# Altium footprint library Mini-Rambo_OLD.PcbLib: 52 footprints (part 4 of 4)
Each footprint in its own frame and in the unit in brackets; x right, y up, seen from the top. Pads: shape width x height; smd on the part's side, far side on the other; paste and mask are expansions set on the pad; w line width, h text height; cw(c..) or ccw(c..) is an arc to the next point about the centre after c.
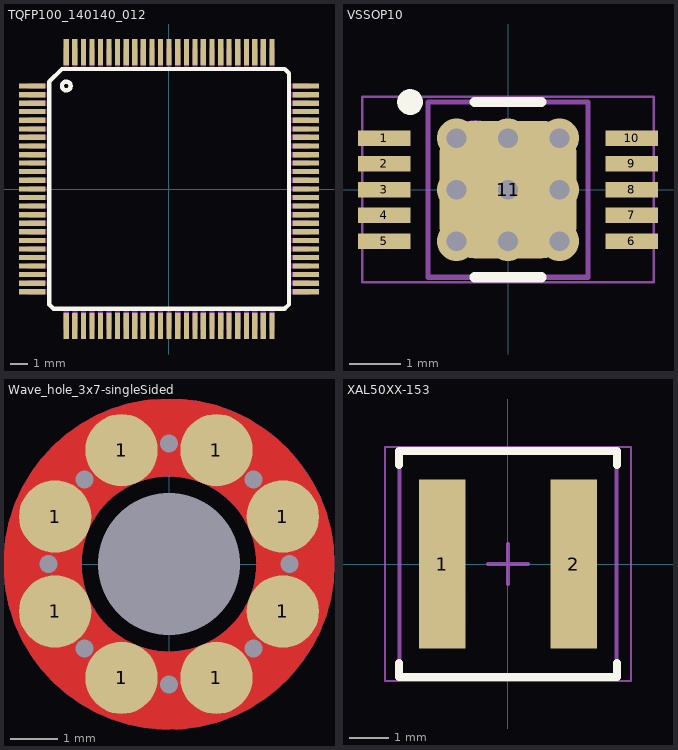
[diagram p3: the footprints below, top view; thin cyan lines are the x and y axes]

## TQFP100_140140_012 [mil]
pads (100):
  rect 60x12 smd mask+4: 1(-314.96,237) 2(-314.96,217) 3(-314.96,197) 4(-314.96,178) 5(-314.96,158) 6(-314.96,138) 7(-314.96,119) 8(-314.96,99) 9(-314.96,79) 10(-314.96,60) 11(-314.96,40) 12(-314.96,20) 13(-314.96,0) 14(-314.96,-19.68) 15(-314.96,-39.37) 16(-314.96,-59.06) 17(-314.96,-78.74) 18(-314.96,-98.43) 19(-314.96,-118.11) 20(-314.96,-137.8) 21(-314.96,-157.48) 22(-314.96,-177.17) 23(-314.96,-196.85) 24(-314.96,-216.54) 25(-314.96,-236.22) 51(315,-236.22) 52(315,-216.54) 53(315,-196.85) 54(315,-177.17) 55(315,-157.48) 56(315,-137.8) 57(315,-118.11) 58(315,-98.43) 59(315,-78.74) 60(315,-59.06) 61(315,-39.37) 62(315,-19.68) 63(315,0) 64(315,20) 65(315,40) 66(315,60) 67(315,79) 68(315,99) 69(315,119) 70(315,138) 71(315,158) 72(315,178) 73(315,197) 74(315,217) 75(315,237)
  rect 12x60 smd mask+4: 26(-236.22,-314.96) 27(-216.54,-314.96) 28(-196.85,-314.96) 29(-177.17,-314.96) 30(-157.48,-314.96) 31(-137.8,-314.96) 32(-118.11,-314.96) 33(-98.43,-314.96) 34(-78.74,-314.96) 35(-59.06,-314.96) 36(-39.37,-314.96) 37(-19.69,-314.96) 38(0,-314.96) 39(20,-314.96) 40(40,-314.96) 41(60,-314.96) 42(79,-314.96) 43(99,-314.96) 44(119,-314.96) 45(138,-314.96) 46(158,-314.96) 47(178,-314.96) 48(197,-314.96) 49(217,-314.96) 50(237,-314.96) 76(237,315) 77(217,315) 78(197,315) 79(178,315) 80(158,315) 81(138,315) 82(119,315) 83(99,315) 84(79,315) 85(60,315) 86(40,315) 87(20,315) 88(0,315) 89(-19.69,315) 90(-39.37,315) 91(-59.06,315) 92(-78.74,315) 93(-98.43,315) 94(-118.11,315) 95(-137.8,315) 96(-157.48,315) 97(-177.17,315) 98(-196.85,315) 99(-216.54,315) 100(-236.22,315)
Top Overlay:
  circle w10: c-236.22,237 r10
  lines w10: -275.59,-265.75 -265.75,-275.59 266,-275.59 276,-265.75 276,266 266,276 -246.06,276 -275.59,247 -275.59,-265.75
Mechanical 8:
  rectangle: -322.83,231.02 -281.5,243.02
  rectangle: -322.83,211.02 -281.5,223.02
  rectangle: -322.83,191.02 -281.5,203.02
  rectangle: -322.83,172.02 -281.5,184.02
  rectangle: -322.83,152.02 -281.5,164.02
  rectangle: -322.83,132.02 -281.5,144.02
  rectangle: -322.83,113.02 -281.5,125.02
  rectangle: -322.83,93.02 -281.5,105.02
  rectangle: -322.83,73.02 -281.5,85.02
  rectangle: -322.83,54.02 -281.5,65.02
  rectangle: -322.83,34.02 -281.5,46.02
  rectangle: -322.83,14.02 -281.5,26.02
  rectangle: -322.83,-5.91 -281.5,6
  rectangle: -322.83,-25.59 -281.5,-13.78
  rectangle: -322.85,-45.28 -281.51,-33.46
  rectangle: -322.83,-64.96 -281.5,-53.15
  rectangle: -322.83,-84.63 -281.5,-72.81
  rectangle: -322.83,-104.33 -281.5,-92.52
  rectangle: -322.85,-124.02 -281.51,-112.2
  rectangle: -322.83,-143.7 -281.5,-131.88
  rectangle: -322.83,-163.39 -281.5,-151.57
  rectangle: -322.83,-183.07 -281.5,-171.25
  rectangle: -322.83,-202.74 -281.5,-190.92
  rectangle: -322.83,-222.44 -281.5,-210.62
  rectangle: -322.85,-242.13 -281.52,-230.31
  rectangle: -242.15,-322.83 -230.33,-281.5
  rectangle: -222.44,-322.83 -210.63,-281.5
  rectangle: -202.76,-322.85 -190.94,-281.52
  rectangle: -183.07,-322.83 -171.26,-281.5
  rectangle: -163.39,-322.83 -151.57,-281.5
  rectangle: -143.7,-322.83 -131.89,-281.5
  rectangle: -124.04,-322.83 -112.22,-281.5
  rectangle: -104.33,-322.83 -92.52,-281.5
  rectangle: -84.65,-322.85 -72.83,-281.52
  rectangle: -64.96,-322.83 -53.15,-281.5
  rectangle: -45.3,-322.83 -33.48,-281.5
  rectangle: -25.59,-322.83 -13.78,-281.5
  rectangle: -5.91,-322.83 6,-281.5
  rectangle: 14,-322.85 26,-281.51
  rectangle: 34,-322.85 46,-281.51
  rectangle: 54,-322.85 65,-281.51
  rectangle: 73,-322.85 85,-281.51
  rectangle: 93,-322.85 105,-281.51
  rectangle: 113,-322.85 125,-281.51
  rectangle: 132,-322.85 144,-281.51
  rectangle: 152,-322.85 164,-281.51
  rectangle: 172,-322.85 184,-281.51
  rectangle: 191,-322.85 203,-281.51
  rectangle: 211,-322.85 223,-281.51
  rectangle: 231,-322.85 243,-281.51
  rectangle: 282,-242.13 323,-230.31
  rectangle: 282,-222.44 323,-210.63
  rectangle: 282,-202.76 323,-190.94
  rectangle: 282,-183.09 323,-171.27
  rectangle: 282,-163.39 323,-151.57
  rectangle: 282.02,-143.7 323.02,-131.89
  rectangle: 282,-124.02 323,-112.2
  rectangle: 282,-104.35 323,-92.53
  rectangle: 282,-84.65 323,-72.83
  rectangle: 282,-64.96 323,-53.15
  rectangle: 282,-45.28 323,-33.46
  rectangle: 282.02,-25.59 323.02,-13.78
  rectangle: 282.02,-5.91 323.02,6
  rectangle: 282,14 323,26
  rectangle: 282,34 323,46
  rectangle: 282,54 323,65
  rectangle: 282,73 323,85
  rectangle: 282,93 323,105
  rectangle: 282,113 323,125
  rectangle: 282,132 323,144
  rectangle: 282,152 323,164
  rectangle: 282,172 323,184
  rectangle: 282,191 323,203
  rectangle: 282,211 323,223
  rectangle: 282,231 323,243
  rectangle: 231,282 243,323
  rectangle: 211,282 223,323
  rectangle: 191,282 203,323
  rectangle: 172,282 184,323
  rectangle: 152,282 164,323
  rectangle: 132,282 144,323
  rectangle: 113,282 125,323
  rectangle: 93,282 105,323
  rectangle: 73,282 85,323
  rectangle: 54,282 65,323
  rectangle: 34,282 46,323
  rectangle: 14,282 26,323
  rectangle: -5.89,282 6.02,323
  rectangle: -25.57,282 -13.76,323
  rectangle: -45.28,282 -33.46,323
  rectangle: -64.96,282 -53.15,323
  rectangle: -84.65,282 -72.83,323
  rectangle: -104.33,282.02 -92.52,323.02
  rectangle: -124.02,282 -112.2,323
  rectangle: -143.68,282 -131.87,323
  rectangle: -163.39,282 -151.57,323
  rectangle: -183.07,282.02 -171.26,323.02
  rectangle: -202.76,282 -190.94,323
  rectangle: -222.44,282 -210.63,323
  rectangle: -242.13,282 -230.31,323
3D body: height 47.24, standoff 0, extent -280.59,-280.59 281,281

## VSSOP10 [mm] "TSSOP, 10-Leads, Body 3.15x3.00mm, Pitch 0.50mm, Thermal Pad 2.05.2x1.50.2mm, IPC High Density"
height 1.09
pads (11):
  rect 1.02x0.3 smd mask+0.102: 1(-2.4,1) 2(-2.4,0.5) 3(-2.4,0) 4(-2.4,-0.5) 5(-2.4,-1) 6(2.4,-1) 7(2.4,-0.5) 8(2.4,0) 9(2.4,0.5) 10(2.4,1)
  rrect50% 2.667x2.667 smd mask-1.905: 11(0,0)
via 0,0 diameter 0.762 hole 0.381
via 1,0 diameter 0.762 hole 0.381
via 1,-1 diameter 0.762 hole 0.381
via 0,-1 diameter 0.762 hole 0.381
via -1,-1 diameter 0.762 hole 0.381
via -1,0 diameter 0.762 hole 0.381
via -1,1 diameter 0.762 hole 0.381
via 0,1 diameter 0.762 hole 0.381
via 1,1 diameter 0.762 hole 0.381
Top Overlay:
  circle w0.25: c-1.9,1.7 r0.125
  lines w0.2: -0.65,-1.7 0.65,-1.7 ; -0.65,1.7 0.65,1.7
Top Solder:
  region: -0.925,0.75 -0.886,0.754 -0.814,0.784 -0.759,0.839 -0.729,0.911 -0.725,0.95 -0.725,1 -0.275,1 -0.27,0.951 -0.233,0.861 -0.164,0.792 -0.074,0.755 -0.025,0.75 0.025,0.75 0.074,0.755 0.164,0.792 0.233,0.861 0.27,0.951 0.275,1 0.725,1 0.725,0.975 0.729,0.936 0.759,0.864 0.814,0.809 0.886,0.779 0.925,0.775 0.925,0.25 0.891,0.247 0.828,0.221 0.779,0.172 0.753,0.109 0.75,0.075 0.75,-0.025 0.25,-0.025 0.25,0 0.245,0.049 0.208,0.139 0.139,0.208 0.049,0.245 0,0.25 -0.049,0.245 -0.139,0.208 -0.208,0.139 -0.245,0.049 -0.25,0 -0.25,-0.05 -0.725,-0.05 -0.725,0.05 -0.729,0.089 -0.759,0.161 -0.814,0.216 -0.886,0.246 -0.925,0.25
  region: 0.925,-0.75 0.886,-0.754 0.814,-0.784 0.759,-0.839 0.729,-0.911 0.725,-0.95 0.725,-1 0.275,-1 0.27,-0.951 0.233,-0.861 0.164,-0.792 0.074,-0.755 0.025,-0.75 -0.025,-0.75 -0.074,-0.755 -0.164,-0.792 -0.233,-0.861 -0.27,-0.951 -0.275,-1 -0.725,-1 -0.725,-0.975 -0.729,-0.936 -0.759,-0.864 -0.814,-0.809 -0.886,-0.779 -0.925,-0.775 -0.925,-0.25 -0.891,-0.247 -0.828,-0.221 -0.779,-0.172 -0.753,-0.109 -0.75,-0.075 -0.75,0.025 -0.25,0.025 -0.25,0 -0.245,-0.049 -0.208,-0.139 -0.139,-0.208 -0.049,-0.245 0,-0.25 0.049,-0.245 0.139,-0.208 0.208,-0.139 0.245,-0.049 0.25,0 0.25,0.05 0.725,0.05 0.725,-0.05 0.729,-0.089 0.759,-0.161 0.814,-0.216 0.886,-0.246 0.925,-0.25
Mechanical 13:
  circle w0.1: c-0.65,0.8 r0.5
  lines w0.1: -1.55,-1.7 -1.55,1.7 1.55,1.7 1.55,-1.7 -1.55,-1.7
Mechanical 15:
  lines w0.05: -2.825,-1.8 -2.825,1.8 2.825,1.8 2.825,-1.8 -2.825,-1.8
  lines w0.1: -0.5,0 0.5,0 ; 0,-0.5 0,0.5
3D body: height 1.09, standoff 0.02, extent -1.55,-1.7 1.55,1.7

## Wave_hole_3x7-singleSided [mil]
height 74.8
pads (17):
  round 0 hole 118.11 unplated paste+0 mask-112: 0(0,0)
  round 0 hole 15 paste-20 mask-20: 1(-100,0) 1(-70,-70) 1(-70,70) 1(0,-100) 1(0,100) 1(70,-70) 1(70,70) 1(100,0)
  round 60 smd paste-5 mask+0: 1(-94.49,-39.37) 1(-94.49,39.37) 1(-39.37,-94.49) 1(-39.37,94.49) 1(39.37,-94.49) 1(39.37,94.49) 1(94.49,-39.37) 1(94.49,39.37)
Top Layer:
  circle w64.96: c0,0 r105
Bottom Layer:
  lines w64.96: -74.25,-74.25 ccw(c0,0) 105,0 ccw(c0,0) 74.25,74.25 ccw(c0,0) -74.25,-74.25
3D body: height 0, standoff 0, extent -104.98,-104.98 104.98,104.98

## XAL50XX-153 [mm] "Precision Wire Wound Inductor, 2-Leads, Body 5.28x5.48mm, IPC High Density"
height 4.25
pads (2):
  rect 1.18x4.25 smd: 1(-1.655,0) 2(1.655,0)
Top Overlay:
  lines w0.2: -2.75,-2.5 -2.75,-2.85 2.75,-2.85 2.75,-2.5 ; -2.75,2.5 -2.75,2.85 2.75,2.85 2.75,2.5
Mechanical 13:
  lines w0.1: -2.74,-2.84 2.74,-2.84 2.74,2.84 -2.74,2.84 -2.74,-2.84
Mechanical 15:
  lines w0.05: -3.1,-2.95 3.1,-2.95 3.1,2.95 -3.1,2.95 -3.1,-2.95
  lines w0.1: -0.5,0 0.5,0 ; 0,-0.5 0,0.5
3D body: height 4.25, standoff 0, extent -2.74,-2.84 2.74,2.84